# Altium integrated library TI_Logic_Flip-Flop,Latch,Register.IntLib: 2598 symbols (part 43 of 122)
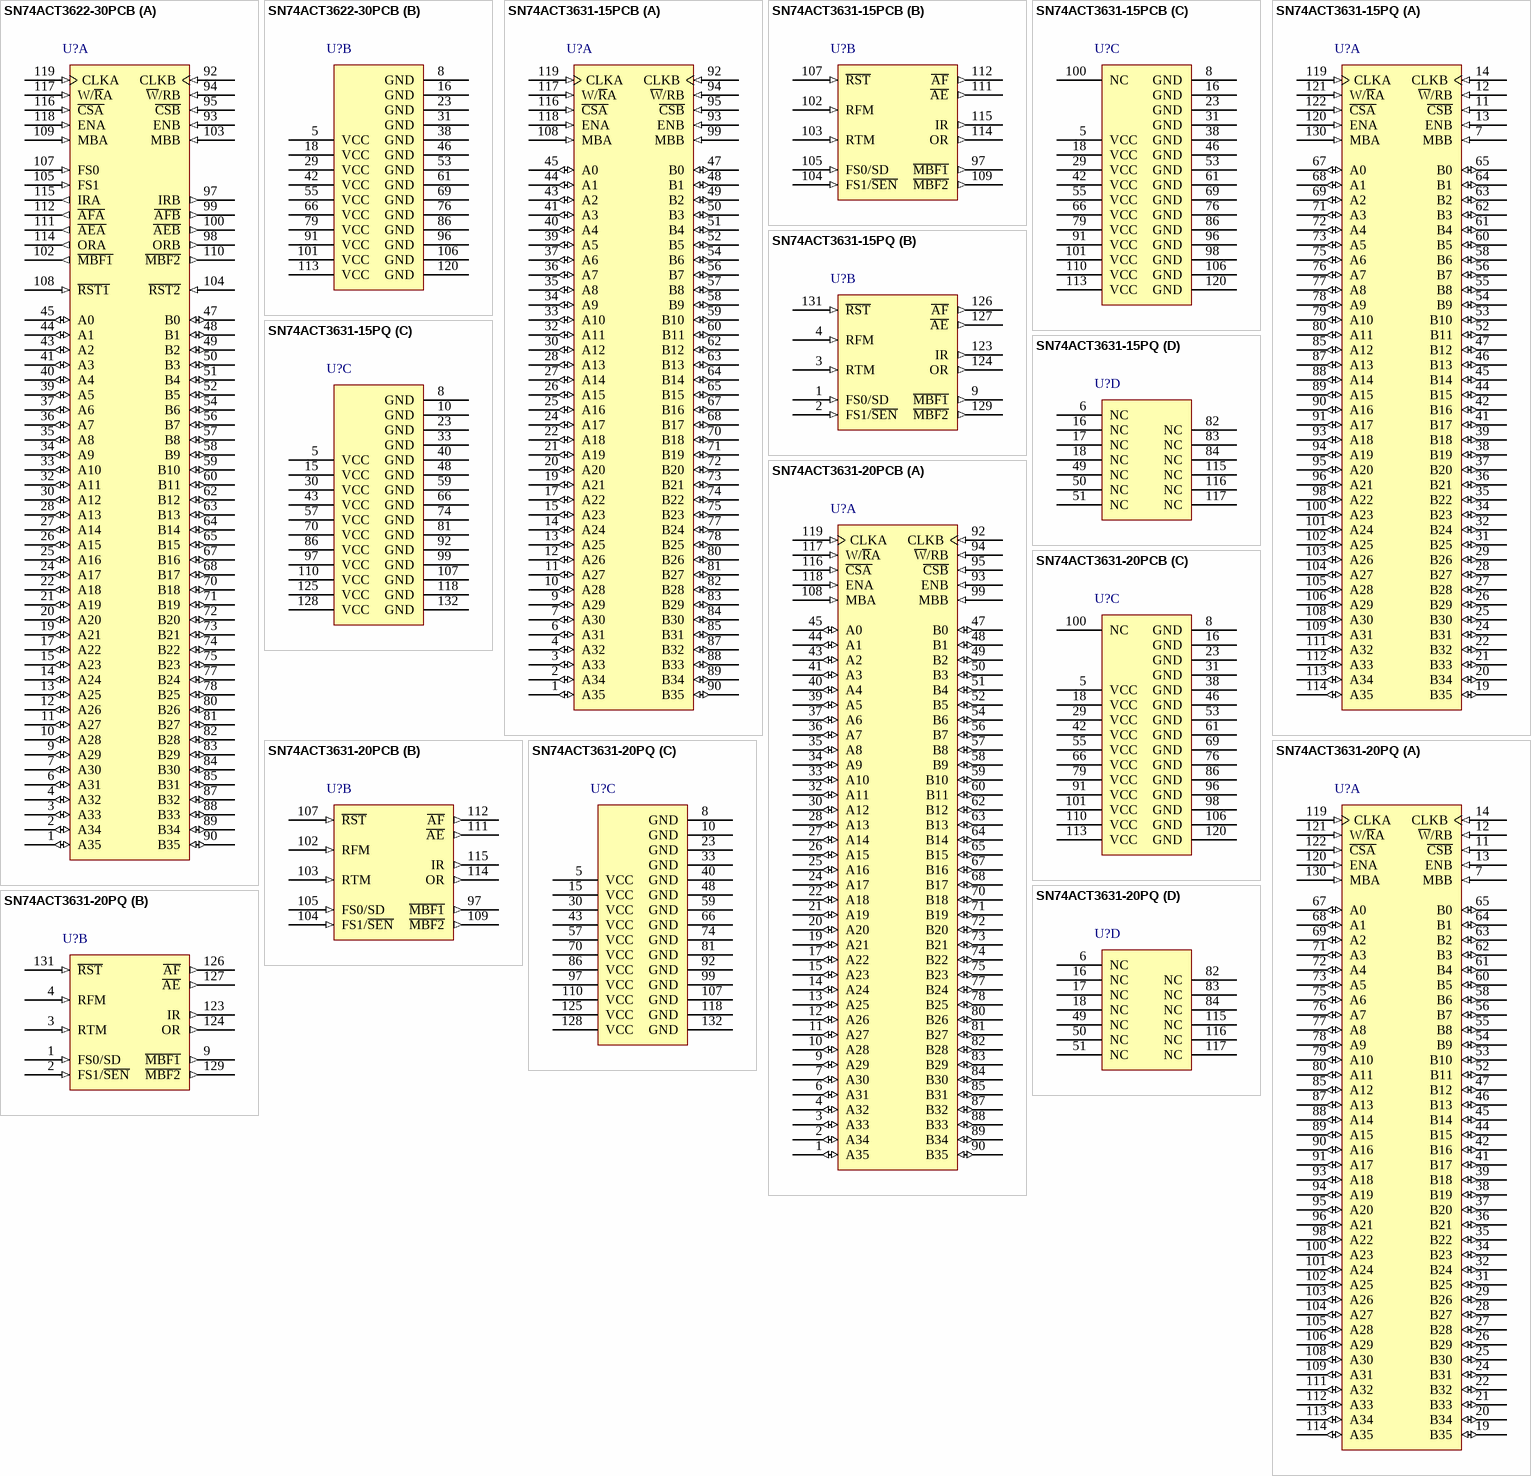
[diagram p181: symbols SN74ACT3622-30PCB to SN74ACT3631-20PQ]

## SN74ACT3622-30PCB
designator U?
256 x 36 x 2 bidirectional synchronous FIFO memory, PCB0120A, JEDEC TRAY (5+1); Generic Part Number: SN74ACT3622; Manufacturer: Texas Instruments; PartNumber: SN74ACT3622-30PCB; Vcc range(V): 4.5 to 5.5; Fmax(MHz): 67; Voltage Nodes(V): 5; Sync/Async: S; Rating: Catalog; Output Drive(mA): -0.5; DatasheetVersion: SCAS247D; PackageReference: PCB0120A; Depth: 255; Width: 36; Operating Temperature Range(C): 0 to 70; Code_JEDEC: MS-026; ComponentLink1Description: Manufacturer URL; ComponentLink1URL: http://www.ti.com/; ComponentLink2Description: Datasheet; ComponentLink2URL: http://www.ti.com/lit/ds/symlink/sn74act3622.pdf; ComponentLink3Description: Package Specification; ComponentLink3URL: http://www.ti.com/lit/ml/mhtq004a/mhtq004a.pdf
footprint PCB0120A_N (QFP, 120-Leads, Body 14x14mm, Pitch 0.4mm, IPC Medium Density)
footprint PCB0120A_M (QFP, 120-Leads, Body 14x14mm, Pitch 0.4mm, IPC Low Density)
footprint PCB0120A_L (QFP, 120-Leads, Body 14x14mm, Pitch 0.4mm, IPC High Density)
part A pins: 1 A35 (io) "Port-A data. The 36-bit bidirectional data port for side A.", 2 A34 (io) "Port-A data. The 36-bit bidirectional data port for side A.", 3 A33 (io) "Port-A data. The 36-bit bidirectional data port for side A.", 4 A32 (io) "Port-A data. The 36-bit bidirectional data port for side A.", 6 A31 (io) "Port-A data. The 36-bit bidirectional data port for side A.", 7 A30 (io) "Port-A data. The 36-bit bidirectional data port for side A.", 9 A29 (io) "Port-A data. The 36-bit bidirectional data port for side A.", 10 A28 (io) "Port-A data. The 36-bit bidirectional data port for side A.", 11 A27 (io) "Port-A data. The 36-bit bidirectional data port for side A.", 12 A26 (io) "Port-A data. The 36-bit bidirectional data port for side A.", 13 A25 (io) "Port-A data. The 36-bit bidirectional data port for side A.", 14 A24 (io) "Port-A data. The 36-bit bidirectional data port for side A.", 15 A23 (io) "Port-A data. The 36-bit bidirectional data port for side A.", 17 A22 (io) "Port-A data. The 36-bit bidirectional data port for side A.", 19 A21 (io) "Port-A data. The 36-bit bidirectional data port for side A.", 20 A20 (io) "Port-A data. The 36-bit bidirectional data port for side A.", 21 A19 (io) "Port-A data. The 36-bit bidirectional data port for side A.", 22 A18 (io) "Port-A data. The 36-bit bidirectional data port for side A.", 24 A17 (io) "Port-A data. The 36-bit bidirectional data port for side A.", 25 A16 (io) "Port-A data. The 36-bit bidirectional data port for side A.", 26 A15 (io) "Port-A data. The 36-bit bidirectional data port for side A.", 27 A14 (io) "Port-A data. The 36-bit bidirectional data port for side A.", 28 A13 (io) "Port-A data. The 36-bit bidirectional data port for side A.", 30 A12 (io) "Port-A data. The 36-bit bidirectional data port for side A.", 32 A11 (io) "Port-A data. The 36-bit bidirectional data port for side A.", 33 A10 (io) "Port-A data. The 36-bit bidirectional data port for side A.", 34 A9 (io) "Port-A data. The 36-bit bidirectional data port for side A.", 35 A8 (io) "Port-A data. The 36-bit bidirectional data port for side A.", 36 A7 (io) "Port-A data. The 36-bit bidirectional data port for side A.", 37 A6 (io) "Port-A data. The 36-bit bidirectional data port for side A.", 39 A5 (io) "Port-A data. The 36-bit bidirectional data port for side A.", 40 A4 (io) "Port-A data. The 36-bit bidirectional data port for side A.", 41 A3 (io) "Port-A data. The 36-bit bidirectional data port for side A.", 43 A2 (io) "Port-A data. The 36-bit bidirectional data port for side A.", 44 A1 (io) "Port-A data. The 36-bit bidirectional data port for side A.", 45 A0 (io) "Port-A data. The 36-bit bidirectional data port for side A.", 47 B0 (io) "Port-B data. The 36-bit bidirectional data port for side B.", 48 B1 (io) "Port-B data. The 36-bit bidirectional data port for side B.", 49 B2 (io) "Port-B data. The 36-bit bidirectional data port for side B.", 50 B3 (io) "Port-B data. The 36-bit bidirectional data port for side B.", 51 B4 (io) "Port-B data. The 36-bit bidirectional data port for side B.", 52 B5 (io) "Port-B data. The 36-bit bidirectional data port for side B.", 54 B6 (io) "Port-B data. The 36-bit bidirectional data port for side B.", 56 B7 (io) "Port-B data. The 36-bit bidirectional data port for side B.", 57 B8 (io) "Port-B data. The 36-bit bidirectional data port for side B.", 58 B9 (io) "Port-B data. The 36-bit bidirectional data port for side B.", 59 B10 (io) "Port-B data. The 36-bit bidirectional data port for side B.", 60 B11 (io) "Port-B data. The 36-bit bidirectional data port for side B.", 62 B12 (io) "Port-B data. The 36-bit bidirectional data port for side B.", 63 B13 (io) "Port-B data. The 36-bit bidirectional data port for side B.", 64 B14 (io) "Port-B data. The 36-bit bidirectional data port for side B.", 65 B15 (io) "Port-B data. The 36-bit bidirectional data port for side B.", 67 B16 (io) "Port-B data. The 36-bit bidirectional data port for side B.", 68 B17 (io) "Port-B data. The 36-bit bidirectional data port for side B.", 70 B18 (io) "Port-B data. The 36-bit bidirectional data port for side B.", 71 B19 (io) "Port-B data. The 36-bit bidirectional data port for side B.", 72 B20 (io) "Port-B data. The 36-bit bidirectional data port for side B.", 73 B21 (io) "Port-B data. The 36-bit bidirectional data port for side B.", 74 B22 (io) "Port-B data. The 36-bit bidirectional data port for side B.", 75 B23 (io) "Port-B data. The 36-bit bidirectional data port for side B.", 77 B24 (io) "Port-B data. The 36-bit bidirectional data port for side B.", 78 B25 (io) "Port-B data. The 36-bit bidirectional data port for side B.", 80 B26 (io) "Port-B data. The 36-bit bidirectional data port for side B.", 81 B27 (io) "Port-B data. The 36-bit bidirectional data port for side B.", 82 B28 (io) "Port-B data. The 36-bit bidirectional data port for side B.", 83 B29 (io) "Port-B data. The 36-bit bidirectional data port for side B.", 84 B30 (io) "Port-B data. The 36-bit bidirectional data port for side B.", 85 B31 (io) "Port-B data. The 36-bit bidirectional data port for side B.", 87 B32 (io) "Port-B data. The 36-bit bidirectional data port for side B.", 88 B33 (io) "Port-B data. The 36-bit bidirectional data port for side B.", 89 B34 (io) "Port-B data. The 36-bit bidirectional data port for side B.", 90 B35 (io) "Port-B data. The 36-bit bidirectional data port for side B.", 92 CLKB (in) "Port-B clock. CLKB is a continuous clock that synchronizes all data transfers through port B and can be asynchronous or coincident to CLKA. IRB, ORB, A\F\B\, and A\E\B\ are synchronized to the low-to-high transition of CLKB.", 93 ENB (in) "Port-B enable. ENB must be high to enable a low-to-high transition of CLKB to read or write data on port B.", 94 ~{W}/RB (in) "Port-B write/read select. A low on W\/RB selects a write operation and a high selects a read operation on port B for a low-to-high transition of CLKB. The B0-B35 outputs are in the high-impedance state when W\/RB is low.", 95 ~{CSB} (in) "Port-B chip select. C\S\B\ must be low to enable a low-to-high transition of CLKB to read or write data on port B. The B0-B35 outputs are in the high-impedance state when C\S\B\ is high.", 97 IRB (out) "Input-ready flag. IRB is synchronized to the low-to-high transition of CLKB. When IRB is low, FIFO2 is full and writes to its array are disabled. IRB is set low when FIFO2 is reset and is set high on the second low-to-high (See Datasheet)", 98 ORB (out) "Output-ready flag. ORB is synchronized to the low-to-high transition of CLKB. When ORB is low, FIFO1 is empty and reads from its memory are disabled. Ready data is present on the output register of FIFO1 when ORB is high. (See Datasheet)", 99 ~{AFB} (out) "Port-B almost-full flag. Programmable flag synchronized to CLKB. A\F\B\ is low when the number of empty locations in FIFO2 is less than or equal to the value in the almost-full B offset register, Y2.", 100 ~{AEB} (out) "Port-B almost-empty flag. Programmable flag synchronized to CLKB. A\E\B\ is low when the number of words in FIFO1 is less than or equal to the value in the almost-empty B offset register, X1.", 102 ~{MBF1} (out) "Mail1 register flag. M\B\F\1\ is set low by the low-to-high transition of CLKA that writes data to the mail1 register. Writes to the mail1 register are inhibited while M\B\F\1\ is low. M\B\F\1\ is set high by a low-to-high (See Datasheet)", 103 MBB (in) "Port-B mailbox select. A high level on MBB chooses a mailbox register for a port-B read or write operation. When the B0-B35 outputs are active, a high level on MBB selects data from the mail1 register for output and a low (See Datasheet)", 104 ~{RST2} (in) "FIFO2 reset. To reset FIFO2, four low-to-high transitions of CLKA and four low-to-high transitions of CLKB must occur while R\S\T\2\ is low. The low-to-high transition of R\S\T\2\ latches the status of FS0 and FS1 for A\F\B\ (See Datasheet)", 105 FS1 (in) "Flag-offset selects. The low-to-high transition of a FIFO reset input latches the values of FS0 and FS1. If either FS0 or FS1 is high when a reset input goes high, one of three preset values is selected as the offset for the (See Datasheet)", 107 FS0 (in) "Flag-offset selects. The low-to-high transition of a FIFO reset input latches the values of FS0 and FS1. If either FS0 or FS1 is high when a reset input goes high, one of three preset values is selected as the offset for the (See Datasheet)", 108 ~{RST1} (in) "FIFO1 reset. To reset FIFO1, four low-to-high transitions of CLKA and four low-to-high transitions of CLKB must occur while R\S\T\1\ is low. The low-to-high transition of R\S\T\1\ latches the status of FS0 and FS1 for A\F\A\ (See Datasheet)", 109 MBA (in) "Port-A mailbox select. A high level on MBA chooses a mailbox register for a port-A read or write operation. When the A0-A35 outputs are active, a high level on MBA selects data from the mail2 register for output and a low (See Datasheet)", 110 ~{MBF2} (out) "Mail2 register flag. M\B\F\2\ is set low by the low-to-high transition of CLKB that writes data to the mail2 register. Writes to the mail2 register are inhibited while M\B\F\2\ is low. M\B\F\2\ is set high by a low-to-high (See Datasheet)", 111 ~{AEA} (out) "Port-A almost-empty flag. Programmable flag synchronized to CLKA. A\E\A\ is low when the number of words in FIFO2 is less than or equal to the value in the almost-empty A offset register, X2.", 112 ~{AFA} (out) "Port-A almost-full flag. Programmable flag synchronized to CLKA. A\F\A\ is low when the number of empty locations in FIFO1 is less than or equal to the value in the almost-full A offset register, Y1.", 114 ORA (out) "Output-ready flag. ORA is synchronized to the low-to-high transition of CLKA. When ORA is low, FIFO2 is empty and reads from its memory are disabled. Ready data is present on the output register of FIFO2 when ORA is high. (See Datasheet)", 115 IRA (out) "Input-ready flag. IRA is synchronized to the low-to-high transition of CLKA. When IRA is low, FIFO1 is full and writes to its array are disabled. IRA is set low when FIFO1 is reset and is set high on the second low-to-high (See Datasheet)", 116 ~{CSA} (in) "Port-A chip select. C\S\A\ must be low to enable a low-to-high transition of CLKA to read or write data on port A. The A0-A35 outputs are in the high-impedance state when C\S\A\ is high.", 117 W/~{R}A (in) "Port-A write/read select. A high on W/R\A selects a write operation and a low selects a read operation on port A for a low-to-high transition of CLKA. The A0-A35 outputs are in the high-impedance state when W/R\A is high.", 118 ENA (in) "Port-A enable. ENA must be high to enable a low-to-high transition of CLKA to read or write data on port A.", 119 CLKA (in) "Port-A clock. CLKA is a continuous clock that synchronizes all data transfers through port A and can be asynchronous or coincident to CLKB. IRA, ORA, A\F\A\, and A\E\A\ are all synchronized to the low-to-high transition of (See Datasheet)"
part B pins: 5 VCC (power), 8 GND (power), 16 GND (power), 18 VCC (power), 23 GND (power), 29 VCC (power), 31 GND (power), 38 GND (power), 42 VCC (power), 46 GND (power), 53 GND (power), 55 VCC (power), 61 GND (power), 66 VCC (power), 69 GND (power), 76 GND (power), 79 VCC (power), 86 GND (power), 91 VCC (power), 96 GND (power), 101 VCC (power), 106 GND (power), 113 VCC (power), 120 GND (power)

## SN74ACT3631-15PCB
designator U?
512 x 36 synchronous FIFO memory, PCB0120A, JEDEC TRAY (5+1); Generic Part Number: SN74ACT3631; Manufacturer: Texas Instruments; PartNumber: SN74ACT3631-15PCB; Vcc range(V): 4.5 to 5.5; Fmax(MHz): 67; Voltage Nodes(V): 5; Sync/Async: S; Rating: Catalog; Output Drive(mA): -0.5; DatasheetVersion: SCAS246G; PackageReference: PCB0120A; Depth: 512; Width: 36; Code_JEDEC: MS-026; ComponentLink1Description: Manufacturer URL; ComponentLink1URL: http://www.ti.com/; ComponentLink2Description: Datasheet; ComponentLink2URL: http://www.ti.com/lit/ds/symlink/sn74act3631.pdf; ComponentLink3Description: Package Specification; ComponentLink3URL: http://www.ti.com/lit/ml/mhtq004a/mhtq004a.pdf
footprint PCB0120A_N (QFP, 120-Leads, Body 14x14mm, Pitch 0.4mm, IPC Medium Density)
footprint PCB0120A_M (QFP, 120-Leads, Body 14x14mm, Pitch 0.4mm, IPC Low Density)
footprint PCB0120A_L (QFP, 120-Leads, Body 14x14mm, Pitch 0.4mm, IPC High Density)
part A pins: 1 A35 (io) "Port-A data. The 36-bit bidirectional data port for side A.", 2 A34 (io) "Port-A data. The 36-bit bidirectional data port for side A.", 3 A33 (io) "Port-A data. The 36-bit bidirectional data port for side A.", 4 A32 (io) "Port-A data. The 36-bit bidirectional data port for side A.", 6 A31 (io) "Port-A data. The 36-bit bidirectional data port for side A.", 7 A30 (io) "Port-A data. The 36-bit bidirectional data port for side A.", 9 A29 (io) "Port-A data. The 36-bit bidirectional data port for side A.", 10 A28 (io) "Port-A data. The 36-bit bidirectional data port for side A.", 11 A27 (io) "Port-A data. The 36-bit bidirectional data port for side A.", 12 A26 (io) "Port-A data. The 36-bit bidirectional data port for side A.", 13 A25 (io) "Port-A data. The 36-bit bidirectional data port for side A.", 14 A24 (io) "Port-A data. The 36-bit bidirectional data port for side A.", 15 A23 (io) "Port-A data. The 36-bit bidirectional data port for side A.", 17 A22 (io) "Port-A data. The 36-bit bidirectional data port for side A.", 19 A21 (io) "Port-A data. The 36-bit bidirectional data port for side A.", 20 A20 (io) "Port-A data. The 36-bit bidirectional data port for side A.", 21 A19 (io) "Port-A data. The 36-bit bidirectional data port for side A.", 22 A18 (io) "Port-A data. The 36-bit bidirectional data port for side A.", 24 A17 (io) "Port-A data. The 36-bit bidirectional data port for side A.", 25 A16 (io) "Port-A data. The 36-bit bidirectional data port for side A.", 26 A15 (io) "Port-A data. The 36-bit bidirectional data port for side A.", 27 A14 (io) "Port-A data. The 36-bit bidirectional data port for side A.", 28 A13 (io) "Port-A data. The 36-bit bidirectional data port for side A.", 30 A12 (io) "Port-A data. The 36-bit bidirectional data port for side A.", 32 A11 (io) "Port-A data. The 36-bit bidirectional data port for side A.", 33 A10 (io) "Port-A data. The 36-bit bidirectional data port for side A.", 34 A9 (io) "Port-A data. The 36-bit bidirectional data port for side A.", 35 A8 (io) "Port-A data. The 36-bit bidirectional data port for side A.", 36 A7 (io) "Port-A data. The 36-bit bidirectional data port for side A.", 37 A6 (io) "Port-A data. The 36-bit bidirectional data port for side A.", 39 A5 (io) "Port-A data. The 36-bit bidirectional data port for side A.", 40 A4 (io) "Port-A data. The 36-bit bidirectional data port for side A.", 41 A3 (io) "Port-A data. The 36-bit bidirectional data port for side A.", 43 A2 (io) "Port-A data. The 36-bit bidirectional data port for side A.", 44 A1 (io) "Port-A data. The 36-bit bidirectional data port for side A.", 45 A0 (io) "Port-A data. The 36-bit bidirectional data port for side A.", 47 B0 (io) "Port-B data. The 36-bit bidirectional data port for side B.", 48 B1 (io) "Port-B data. The 36-bit bidirectional data port for side B.", 49 B2 (io) "Port-B data. The 36-bit bidirectional data port for side B.", 50 B3 (io) "Port-B data. The 36-bit bidirectional data port for side B.", 51 B4 (io) "Port-B data. The 36-bit bidirectional data port for side B.", 52 B5 (io) "Port-B data. The 36-bit bidirectional data port for side B.", 54 B6 (io) "Port-B data. The 36-bit bidirectional data port for side B.", 56 B7 (io) "Port-B data. The 36-bit bidirectional data port for side B.", 57 B8 (io) "Port-B data. The 36-bit bidirectional data port for side B.", 58 B9 (io) "Port-B data. The 36-bit bidirectional data port for side B.", 59 B10 (io) "Port-B data. The 36-bit bidirectional data port for side B.", 60 B11 (io) "Port-B data. The 36-bit bidirectional data port for side B.", 62 B12 (io) "Port-B data. The 36-bit bidirectional data port for side B.", 63 B13 (io) "Port-B data. The 36-bit bidirectional data port for side B.", 64 B14 (io) "Port-B data. The 36-bit bidirectional data port for side B.", 65 B15 (io) "Port-B data. The 36-bit bidirectional data port for side B.", 67 B16 (io) "Port-B data. The 36-bit bidirectional data port for side B.", 68 B17 (io) "Port-B data. The 36-bit bidirectional data port for side B.", 70 B18 (io) "Port-B data. The 36-bit bidirectional data port for side B.", 71 B19 (io) "Port-B data. The 36-bit bidirectional data port for side B.", 72 B20 (io) "Port-B data. The 36-bit bidirectional data port for side B.", 73 B21 (io) "Port-B data. The 36-bit bidirectional data port for side B.", 74 B22 (io) "Port-B data. The 36-bit bidirectional data port for side B.", 75 B23 (io) "Port-B data. The 36-bit bidirectional data port for side B.", 77 B24 (io) "Port-B data. The 36-bit bidirectional data port for side B.", 78 B25 (io) "Port-B data. The 36-bit bidirectional data port for side B.", 80 B26 (io) "Port-B data. The 36-bit bidirectional data port for side B.", 81 B27 (io) "Port-B data. The 36-bit bidirectional data port for side B.", 82 B28 (io) "Port-B data. The 36-bit bidirectional data port for side B.", 83 B29 (io) "Port-B data. The 36-bit bidirectional data port for side B.", 84 B30 (io) "Port-B data. The 36-bit bidirectional data port for side B.", 85 B31 (io) "Port-B data. The 36-bit bidirectional data port for side B.", 87 B32 (io) "Port-B data. The 36-bit bidirectional data port for side B.", 88 B33 (io) "Port-B data. The 36-bit bidirectional data port for side B.", 89 B34 (io) "Port-B data. The 36-bit bidirectional data port for side B.", 90 B35 (io) "Port-B data. The 36-bit bidirectional data port for side B.", 92 CLKB (in) "Port-B clock. CLKB is a continuous clock that synchronizes all data transfers through port B and can be asynchronous or coincident to CLKA. OR and A\E\ are synchronous to the low-to-high transition of CLKB.", 93 ENB (in) "Port-B master enable. ENB must be high to enable a low-to-high transition of CLKB to read or write data on port B.", 94 ~{W}/RB (in) "Port-B write/read select. A low on W\/RB selects a write operation and a high selects a read operation on port B for a low-to-high transition of CLKB. The B0-B35 outputs are in the high-impedance state when W\/RB is low.", 95 ~{CSB} (in) "Port-B chip select. C\S\B\ must be low to enable a low-to-high transition of CLKB to read or write data on port B. The B0-B35 outputs are in the high-impedance state when C\S\B\ is high.", 99 MBB (in) "Port-B mailbox select. A high level on MBB chooses a mailbox register for a port-B read or write operation. When the B0-B35 outputs are active, a high level on MBB selects data from the mail1 register for output and a low (See Datasheet)", 108 MBA (in) "Port-A mailbox select. A high level on MBA chooses a mailbox register for a port-A read or write operation.", 116 ~{CSA} (in) "Port-A chip select. C\S\A\ must be low to enable a low-to-high transition of CLKA to read or write data on port A. The A0-A35 outputs are in the high-impedance state when C\S\A\ is high.", 117 W/~{R}A (in) "Port-A write/read select. A high on W/R\A selects a write operation and a low selects a read operation on port A for a low-to-high transition of CLKA. The A0-A35 outputs are in the high-impedance state when W/R\A is high.", 118 ENA (in) "Port-A master enable. ENA must be high to enable a low-to-high transition of CLKA to read or write data on port A.", 119 CLKA (in) "Port-A clock. CLKA is a continuous clock that synchronizes all data transfers through port A and can be asynchronous or coincident to CLKB. IR and A\F\ are synchronous to the low-to-high transition of CLKA."
part B pins: 97 ~{MBF1} (out) "Mail1 register flag. M\B\F\1\ is set low by the low-to-high transition of CLKA that writes data to the mail1 register. M\B\F\1\ is set high by a low-to-high transition of CLKB when a port-B read is selected and MBB is high. (See Datasheet)", 102 RFM (in) "Read from mark. When the FIFO is in retransmit mode, a high on RFM enables a low-to-high transition of CLKB to reset the read pointer to the beginning retransmit location and output the first selected retransmit data.", 103 RTM (in) "Retransmit mode. When RTM is high and valid data is present in the FIFO output register (OR is high), a low-to-high transition of CLKB selects the data for the beginning of a retransmit and puts the FIFO in retransmit mode. (See Datasheet)", 104 FS1/~{SEN} (in) "Flag-offset select 1/serial enable, flag-offset select 0/serial data. FS1/S\E\N\ and FS0/SD are dual-purpose inputs used for flag-offset-register programming. During a device reset, FS1/S\E\N\ and FS0/SD select the (See Datasheet)", 105 FS0/SD (in) "Flag-offset select 1/serial enable, flag-offset select 0/serial data. FS1/S\E\N\ and FS0/SD are dual-purpose inputs used for flag-offset-register programming. During a device reset, FS1/S\E\N\ and FS0/SD select the (See Datasheet)", 107 ~{RST} (in) "Reset. To reset the device, four low-to-high transitions of CLKA and four low-to-high transitions of CLKB must occur while R\S\T\ is low. The low-to-high transition of R\S\T\ latches the status of FS0 and FS1 for A\F\ and (See Datasheet)", 109 ~{MBF2} (out) "Mail2 register flag. M\B\F\2\ is set low by the low-to-high transition of CLKB that writes data to the mail2 register. M\B\F\2\ is set high by a low-to-high transition of CLKA when a port-A read is selected and MBA is high. (See Datasheet)", 111 ~{AE} (out) "Almost-empty flag. Programmable flag synchronized to CLKB. A\E\ is low when the number of words in the FIFO is less than or equal to the value in the almost-empty offset register (X).", 112 ~{AF} (out) "Almost-full flag. Programmable flag synchronized to CLKA. A\F\ is low when the number of empty locations in the FIFO is less than or equal to the value in the almost-full offset register (Y).", 114 OR (out) "Output-ready flag. OR is synchronized to the low-to-high transition of CLKB. When OR is low, the FIFO is empty and reads are disabled. Ready data is present in the output register of the FIFO when OR is high. OR is forced (See Datasheet)", 115 IR (out) "Input-ready flag. IR is synchronized to the low-to-high transition of CLKA. When IR is low, the FIFO is full and writes to its array are disabled. When the FIFO is in retransmit mode, IR indicates when the memory has been (See Datasheet)"
part C pins: 5 VCC (power), 8 GND (power), 16 GND (power), 18 VCC (power), 23 GND (power), 29 VCC (power), 31 GND (power), 38 GND (power), 42 VCC (power), 46 GND (power), 53 GND (power), 55 VCC (power), 61 GND (power), 66 VCC (power), 69 GND (power), 76 GND (power), 79 VCC (power), 86 GND (power), 91 VCC (power), 96 GND (power), 98 GND (power), 100 NC, 101 VCC (power), 106 GND (power), 110 VCC (power), 113 VCC (power), 120 GND (power)

## SN74ACT3631-15PQ
designator U?
512 x 36 synchronous FIFO memory, PQ0132A, JEDEC TRAY (10+1); Generic Part Number: SN74ACT3631; Manufacturer: Texas Instruments; PartNumber: SN74ACT3631-15PQ; Vcc range(V): 4.5 to 5.5; Fmax(MHz): 67; Voltage Nodes(V): 5; Sync/Async: S; Rating: Catalog; Output Drive(mA): -0.5; DatasheetVersion: SCAS246G; PackageReference: PQ0132A; Depth: 512; Width: 36; Code_JEDEC: MO-069; ComponentLink1Description: Manufacturer URL; ComponentLink1URL: http://www.ti.com/; ComponentLink2Description: Datasheet; ComponentLink2URL: http://www.ti.com/lit/ds/symlink/sn74act3631.pdf; ComponentLink3Description: Package Specification; ComponentLink3URL: http://www.ti.com/lit/ml/mbqf001a/mbqf001a.pdf
footprint PQ0132A_N (QFP, 132-Leads, Body 24.1x24.1mm, Pitch 0.635mm, IPC Medium Density)
footprint PQ0132A_M (QFP, 132-Leads, Body 24.1x24.1mm, Pitch 0.635mm, IPC Low Density)
footprint PQ0132A_L (QFP, 132-Leads, Body 24.1x24.1mm, Pitch 0.635mm, IPC High Density)
part A pins: 7 MBB (in) "Port-B mailbox select. A high level on MBB chooses a mailbox register for a port-B read or write operation. When the B0-B35 outputs are active, a high level on MBB selects data from the mail1 register for output and a low (See Datasheet)", 11 ~{CSB} (in) "Port-B chip select. C\S\B\ must be low to enable a low-to-high transition of CLKB to read or write data on port B. The B0-B35 outputs are in the high-impedance state when C\S\B\ is high.", 12 ~{W}/RB (in) "Port-B write/read select. A low on W\/RB selects a write operation and a high selects a read operation on port B for a low-to-high transition of CLKB. The B0-B35 outputs are in the high-impedance state when W\/RB is low.", 13 ENB (in) "Port-B master enable. ENB must be high to enable a low-to-high transition of CLKB to read or write data on port B.", 14 CLKB (in) "Port-B clock. CLKB is a continuous clock that synchronizes all data transfers through port B and can be asynchronous or coincident to CLKA. OR and A\E\ are synchronous to the low-to-high transition of CLKB.", 19 B35 (io) "Port-B data. The 36-bit bidirectional data port for side B.", 20 B34 (io) "Port-B data. The 36-bit bidirectional data port for side B.", 21 B33 (io) "Port-B data. The 36-bit bidirectional data port for side B.", 22 B32 (io) "Port-B data. The 36-bit bidirectional data port for side B.", 24 B31 (io) "Port-B data. The 36-bit bidirectional data port for side B.", 25 B30 (io) "Port-B data. The 36-bit bidirectional data port for side B.", 26 B29 (io) "Port-B data. The 36-bit bidirectional data port for side B.", 27 B28 (io) "Port-B data. The 36-bit bidirectional data port for side B.", 28 B27 (io) "Port-B data. The 36-bit bidirectional data port for side B.", 29 B26 (io) "Port-B data. The 36-bit bidirectional data port for side B.", 31 B25 (io) "Port-B data. The 36-bit bidirectional data port for side B.", 32 B24 (io) "Port-B data. The 36-bit bidirectional data port for side B.", 34 B23 (io) "Port-B data. The 36-bit bidirectional data port for side B.", 35 B22 (io) "Port-B data. The 36-bit bidirectional data port for side B.", 36 B21 (io) "Port-B data. The 36-bit bidirectional data port for side B.", 37 B20 (io) "Port-B data. The 36-bit bidirectional data port for side B.", 38 B19 (io) "Port-B data. The 36-bit bidirectional data port for side B.", 39 B18 (io) "Port-B data. The 36-bit bidirectional data port for side B.", 41 B17 (io) "Port-B data. The 36-bit bidirectional data port for side B.", 42 B16 (io) "Port-B data. The 36-bit bidirectional data port for side B.", 44 B15 (io) "Port-B data. The 36-bit bidirectional data port for side B.", 45 B14 (io) "Port-B data. The 36-bit bidirectional data port for side B.", 46 B13 (io) "Port-B data. The 36-bit bidirectional data port for side B.", 47 B12 (io) "Port-B data. The 36-bit bidirectional data port for side B.", 52 B11 (io) "Port-B data. The 36-bit bidirectional data port for side B.", 53 B10 (io) "Port-B data. The 36-bit bidirectional data port for side B.", 54 B9 (io) "Port-B data. The 36-bit bidirectional data port for side B.", 55 B8 (io) "Port-B data. The 36-bit bidirectional data port for side B.", 56 B7 (io) "Port-B data. The 36-bit bidirectional data port for side B.", 58 B6 (io) "Port-B data. The 36-bit bidirectional data port for side B.", 60 B5 (io) "Port-B data. The 36-bit bidirectional data port for side B.", 61 B4 (io) "Port-B data. The 36-bit bidirectional data port for side B.", 62 B3 (io) "Port-B data. The 36-bit bidirectional data port for side B.", 63 B2 (io) "Port-B data. The 36-bit bidirectional data port for side B.", 64 B1 (io) "Port-B data. The 36-bit bidirectional data port for side B.", 65 B0 (io) "Port-B data. The 36-bit bidirectional data port for side B.", 67 A0 (io) "Port-A data. The 36-bit bidirectional data port for side A.", 68 A1 (io) "Port-A data. The 36-bit bidirectional data port for side A.", 69 A2 (io) "Port-A data. The 36-bit bidirectional data port for side A.", 71 A3 (io) "Port-A data. The 36-bit bidirectional data port for side A.", 72 A4 (io) "Port-A data. The 36-bit bidirectional data port for side A.", 73 A5 (io) "Port-A data. The 36-bit bidirectional data port for side A.", 75 A6 (io) "Port-A data. The 36-bit bidirectional data port for side A.", 76 A7 (io) "Port-A data. The 36-bit bidirectional data port for side A.", 77 A8 (io) "Port-A data. The 36-bit bidirectional data port for side A.", 78 A9 (io) "Port-A data. The 36-bit bidirectional data port for side A.", 79 A10 (io) "Port-A data. The 36-bit bidirectional data port for side A.", 80 A11 (io) "Port-A data. The 36-bit bidirectional data port for side A.", 85 A12 (io) "Port-A data. The 36-bit bidirectional data port for side A.", 87 A13 (io) "Port-A data. The 36-bit bidirectional data port for side A.", 88 A14 (io) "Port-A data. The 36-bit bidirectional data port for side A.", 89 A15 (io) "Port-A data. The 36-bit bidirectional data port for side A.", 90 A16 (io) "Port-A data. The 36-bit bidirectional data port for side A.", 91 A17 (io) "Port-A data. The 36-bit bidirectional data port for side A.", 93 A18 (io) "Port-A data. The 36-bit bidirectional data port for side A.", 94 A19 (io) "Port-A data. The 36-bit bidirectional data port for side A.", 95 A20 (io) "Port-A data. The 36-bit bidirectional data port for side A.", 96 A21 (io) "Port-A data. The 36-bit bidirectional data port for side A.", 98 A22 (io) "Port-A data. The 36-bit bidirectional data port for side A.", 100 A23 (io) "Port-A data. The 36-bit bidirectional data port for side A.", 101 A24 (io) "Port-A data. The 36-bit bidirectional data port for side A.", 102 A25 (io) "Port-A data. The 36-bit bidirectional data port for side A.", 103 A26 (io) "Port-A data. The 36-bit bidirectional data port for side A.", 104 A27 (io) "Port-A data. The 36-bit bidirectional data port for side A.", 105 A28 (io) "Port-A data. The 36-bit bidirectional data port for side A.", 106 A29 (io) "Port-A data. The 36-bit bidirectional data port for side A.", 108 A30 (io) "Port-A data. The 36-bit bidirectional data port for side A.", 109 A31 (io) "Port-A data. The 36-bit bidirectional data port for side A.", 111 A32 (io) "Port-A data. The 36-bit bidirectional data port for side A.", 112 A33 (io) "Port-A data. The 36-bit bidirectional data port for side A.", 113 A34 (io) "Port-A data. The 36-bit bidirectional data port for side A.", 114 A35 (io) "Port-A data. The 36-bit bidirectional data port for side A.", 119 CLKA (in) "Port-A clock. CLKA is a continuous clock that synchronizes all data transfers through port A and can be asynchronous or coincident to CLKB. IR and A\F\ are synchronous to the low-to-high transition of CLKA.", 120 ENA (in) "Port-A master enable. ENA must be high to enable a low-to-high transition of CLKA to read or write data on port A.", 121 W/~{R}A (in) "Port-A write/read select. A high on W/R\A selects a write operation and a low selects a read operation on port A for a low-to-high transition of CLKA. The A0-A35 outputs are in the high-impedance state when W/R\A is high.", 122 ~{CSA} (in) "Port-A chip select. C\S\A\ must be low to enable a low-to-high transition of CLKA to read or write data on port A. The A0-A35 outputs are in the high-impedance state when C\S\A\ is high.", 130 MBA (in) "Port-A mailbox select. A high level on MBA chooses a mailbox register for a port-A read or write operation."
part B pins: 1 FS0/SD (in) "Flag-offset select 1/serial enable, flag-offset select 0/serial data. FS1/S\E\N\ and FS0/SD are dual-purpose inputs used for flag-offset-register programming. During a device reset, FS1/S\E\N\ and FS0/SD select the (See Datasheet)", 2 FS1/~{SEN} (in) "Flag-offset select 1/serial enable, flag-offset select 0/serial data. FS1/S\E\N\ and FS0/SD are dual-purpose inputs used for flag-offset-register programming. During a device reset, FS1/S\E\N\ and FS0/SD select the (See Datasheet)", 3 RTM (in) "Retransmit mode. When RTM is high and valid data is present in the FIFO output register (OR is high), a low-to-high transition of CLKB selects the data for the beginning of a retransmit and puts the FIFO in retransmit mode. (See Datasheet)", 4 RFM (in) "Read from mark. When the FIFO is in retransmit mode, a high on RFM enables a low-to-high transition of CLKB to reset the read pointer to the beginning retransmit location and output the first selected retransmit data.", 9 ~{MBF1} (out) "Mail1 register flag. M\B\F\1\ is set low by the low-to-high transition of CLKA that writes data to the mail1 register. M\B\F\1\ is set high by a low-to-high transition of CLKB when a port-B read is selected and MBB is high. (See Datasheet)", 123 IR (out) "Input-ready flag. IR is synchronized to the low-to-high transition of CLKA. When IR is low, the FIFO is full and writes to its array are disabled. When the FIFO is in retransmit mode, IR indicates when the memory has been (See Datasheet)", 124 OR (out) "Output-ready flag. OR is synchronized to the low-to-high transition of CLKB. When OR is low, the FIFO is empty and reads are disabled. Ready data is present in the output register of the FIFO when OR is high. OR is forced (See Datasheet)", 126 ~{AF} (out) "Almost-full flag. Programmable flag synchronized to CLKA. A\F\ is low when the number of empty locations in the FIFO is less than or equal to the value in the almost-full offset register (Y).", 127 ~{AE} (out) "Almost-empty flag. Programmable flag synchronized to CLKB. A\E\ is low when the number of words in the FIFO is less than or equal to the value in the almost-empty offset register (X).", 129 ~{MBF2} (out) "Mail2 register flag. M\B\F\2\ is set low by the low-to-high transition of CLKB that writes data to the mail2 register. M\B\F\2\ is set high by a low-to-high transition of CLKA when a port-A read is selected and MBA is high. (See Datasheet)", 131 ~{RST} (in) "Reset. To reset the device, four low-to-high transitions of CLKA and four low-to-high transitions of CLKB must occur while R\S\T\ is low. The low-to-high transition of R\S\T\ latches the status of FS0 and FS1 for A\F\ and (See Datasheet)"
part C pins: 5 VCC (power), 8 GND (power), 10 GND (power), 15 VCC (power), 23 GND (power), 30 VCC (power), 33 GND (power), 40 GND (power), 43 VCC (power), 48 GND (power), 57 VCC (power), 59 GND (power), 66 GND (power), 70 VCC (power), 74 GND (power), 81 GND (power), 86 VCC (power), 92 GND (power), 97 VCC (power), 99 GND (power), 107 GND (power), 110 VCC (power), 118 GND (power), 125 VCC (power), 128 VCC (power), 132 GND (power)
part D pins: 6 NC, 16 NC, 17 NC, 18 NC, 49 NC, 50 NC, 51 NC, 82 NC, 83 NC, 84 NC, 115 NC, 116 NC, 117 NC

## SN74ACT3631-20PCB
designator U?
512 x 36 synchronous FIFO memory, PCB0120A, JEDEC TRAY (5+1); Generic Part Number: SN74ACT3631; Manufacturer: Texas Instruments; PartNumber: SN74ACT3631-20PCB; Vcc range(V): 4.5 to 5.5; Fmax(MHz): 67; Voltage Nodes(V): 5; Sync/Async: S; Rating: Catalog; Output Drive(mA): -0.5; DatasheetVersion: SCAS246G; PackageReference: PCB0120A; Depth: 512; Width: 36; Code_JEDEC: MS-026; ComponentLink1Description: Manufacturer URL; ComponentLink1URL: http://www.ti.com/; ComponentLink2Description: Datasheet; ComponentLink2URL: http://www.ti.com/lit/ds/symlink/sn74act3631.pdf; ComponentLink3Description: Package Specification; ComponentLink3URL: http://www.ti.com/lit/ml/mhtq004a/mhtq004a.pdf
footprint PCB0120A_N (QFP, 120-Leads, Body 14x14mm, Pitch 0.4mm, IPC Medium Density)
footprint PCB0120A_M (QFP, 120-Leads, Body 14x14mm, Pitch 0.4mm, IPC Low Density)
footprint PCB0120A_L (QFP, 120-Leads, Body 14x14mm, Pitch 0.4mm, IPC High Density)
part A pins: 1 A35 (io) "Port-A data. The 36-bit bidirectional data port for side A.", 2 A34 (io) "Port-A data. The 36-bit bidirectional data port for side A.", 3 A33 (io) "Port-A data. The 36-bit bidirectional data port for side A.", 4 A32 (io) "Port-A data. The 36-bit bidirectional data port for side A.", 6 A31 (io) "Port-A data. The 36-bit bidirectional data port for side A.", 7 A30 (io) "Port-A data. The 36-bit bidirectional data port for side A.", 9 A29 (io) "Port-A data. The 36-bit bidirectional data port for side A.", 10 A28 (io) "Port-A data. The 36-bit bidirectional data port for side A.", 11 A27 (io) "Port-A data. The 36-bit bidirectional data port for side A.", 12 A26 (io) "Port-A data. The 36-bit bidirectional data port for side A.", 13 A25 (io) "Port-A data. The 36-bit bidirectional data port for side A.", 14 A24 (io) "Port-A data. The 36-bit bidirectional data port for side A.", 15 A23 (io) "Port-A data. The 36-bit bidirectional data port for side A.", 17 A22 (io) "Port-A data. The 36-bit bidirectional data port for side A.", 19 A21 (io) "Port-A data. The 36-bit bidirectional data port for side A.", 20 A20 (io) "Port-A data. The 36-bit bidirectional data port for side A.", 21 A19 (io) "Port-A data. The 36-bit bidirectional data port for side A.", 22 A18 (io) "Port-A data. The 36-bit bidirectional data port for side A.", 24 A17 (io) "Port-A data. The 36-bit bidirectional data port for side A.", 25 A16 (io) "Port-A data. The 36-bit bidirectional data port for side A.", 26 A15 (io) "Port-A data. The 36-bit bidirectional data port for side A.", 27 A14 (io) "Port-A data. The 36-bit bidirectional data port for side A.", 28 A13 (io) "Port-A data. The 36-bit bidirectional data port for side A.", 30 A12 (io) "Port-A data. The 36-bit bidirectional data port for side A.", 32 A11 (io) "Port-A data. The 36-bit bidirectional data port for side A.", 33 A10 (io) "Port-A data. The 36-bit bidirectional data port for side A.", 34 A9 (io) "Port-A data. The 36-bit bidirectional data port for side A.", 35 A8 (io) "Port-A data. The 36-bit bidirectional data port for side A.", 36 A7 (io) "Port-A data. The 36-bit bidirectional data port for side A.", 37 A6 (io) "Port-A data. The 36-bit bidirectional data port for side A.", 39 A5 (io) "Port-A data. The 36-bit bidirectional data port for side A.", 40 A4 (io) "Port-A data. The 36-bit bidirectional data port for side A.", 41 A3 (io) "Port-A data. The 36-bit bidirectional data port for side A.", 43 A2 (io) "Port-A data. The 36-bit bidirectional data port for side A.", 44 A1 (io) "Port-A data. The 36-bit bidirectional data port for side A.", 45 A0 (io) "Port-A data. The 36-bit bidirectional data port for side A.", 47 B0 (io) "Port-B data. The 36-bit bidirectional data port for side B.", 48 B1 (io) "Port-B data. The 36-bit bidirectional data port for side B.", 49 B2 (io) "Port-B data. The 36-bit bidirectional data port for side B.", 50 B3 (io) "Port-B data. The 36-bit bidirectional data port for side B.", 51 B4 (io) "Port-B data. The 36-bit bidirectional data port for side B.", 52 B5 (io) "Port-B data. The 36-bit bidirectional data port for side B.", 54 B6 (io) "Port-B data. The 36-bit bidirectional data port for side B.", 56 B7 (io) "Port-B data. The 36-bit bidirectional data port for side B.", 57 B8 (io) "Port-B data. The 36-bit bidirectional data port for side B.", 58 B9 (io) "Port-B data. The 36-bit bidirectional data port for side B.", 59 B10 (io) "Port-B data. The 36-bit bidirectional data port for side B.", 60 B11 (io) "Port-B data. The 36-bit bidirectional data port for side B.", 62 B12 (io) "Port-B data. The 36-bit bidirectional data port for side B.", 63 B13 (io) "Port-B data. The 36-bit bidirectional data port for side B.", 64 B14 (io) "Port-B data. The 36-bit bidirectional data port for side B.", 65 B15 (io) "Port-B data. The 36-bit bidirectional data port for side B.", 67 B16 (io) "Port-B data. The 36-bit bidirectional data port for side B.", 68 B17 (io) "Port-B data. The 36-bit bidirectional data port for side B.", 70 B18 (io) "Port-B data. The 36-bit bidirectional data port for side B.", 71 B19 (io) "Port-B data. The 36-bit bidirectional data port for side B.", 72 B20 (io) "Port-B data. The 36-bit bidirectional data port for side B.", 73 B21 (io) "Port-B data. The 36-bit bidirectional data port for side B.", 74 B22 (io) "Port-B data. The 36-bit bidirectional data port for side B.", 75 B23 (io) "Port-B data. The 36-bit bidirectional data port for side B.", 77 B24 (io) "Port-B data. The 36-bit bidirectional data port for side B.", 78 B25 (io) "Port-B data. The 36-bit bidirectional data port for side B.", 80 B26 (io) "Port-B data. The 36-bit bidirectional data port for side B.", 81 B27 (io) "Port-B data. The 36-bit bidirectional data port for side B.", 82 B28 (io) "Port-B data. The 36-bit bidirectional data port for side B.", 83 B29 (io) "Port-B data. The 36-bit bidirectional data port for side B.", 84 B30 (io) "Port-B data. The 36-bit bidirectional data port for side B.", 85 B31 (io) "Port-B data. The 36-bit bidirectional data port for side B.", 87 B32 (io) "Port-B data. The 36-bit bidirectional data port for side B.", 88 B33 (io) "Port-B data. The 36-bit bidirectional data port for side B.", 89 B34 (io) "Port-B data. The 36-bit bidirectional data port for side B.", 90 B35 (io) "Port-B data. The 36-bit bidirectional data port for side B.", 92 CLKB (in) "Port-B clock. CLKB is a continuous clock that synchronizes all data transfers through port B and can be asynchronous or coincident to CLKA. OR and A\E\ are synchronous to the low-to-high transition of CLKB.", 93 ENB (in) "Port-B master enable. ENB must be high to enable a low-to-high transition of CLKB to read or write data on port B.", 94 ~{W}/RB (in) "Port-B write/read select. A low on W\/RB selects a write operation and a high selects a read operation on port B for a low-to-high transition of CLKB. The B0-B35 outputs are in the high-impedance state when W\/RB is low.", 95 ~{CSB} (in) "Port-B chip select. C\S\B\ must be low to enable a low-to-high transition of CLKB to read or write data on port B. The B0-B35 outputs are in the high-impedance state when C\S\B\ is high.", 99 MBB (in) "Port-B mailbox select. A high level on MBB chooses a mailbox register for a port-B read or write operation. When the B0-B35 outputs are active, a high level on MBB selects data from the mail1 register for output and a low (See Datasheet)", 108 MBA (in) "Port-A mailbox select. A high level on MBA chooses a mailbox register for a port-A read or write operation.", 116 ~{CSA} (in) "Port-A chip select. C\S\A\ must be low to enable a low-to-high transition of CLKA to read or write data on port A. The A0-A35 outputs are in the high-impedance state when C\S\A\ is high.", 117 W/~{R}A (in) "Port-A write/read select. A high on W/R\A selects a write operation and a low selects a read operation on port A for a low-to-high transition of CLKA. The A0-A35 outputs are in the high-impedance state when W/R\A is high.", 118 ENA (in) "Port-A master enable. ENA must be high to enable a low-to-high transition of CLKA to read or write data on port A.", 119 CLKA (in) "Port-A clock. CLKA is a continuous clock that synchronizes all data transfers through port A and can be asynchronous or coincident to CLKB. IR and A\F\ are synchronous to the low-to-high transition of CLKA."
part B pins: 97 ~{MBF1} (out) "Mail1 register flag. M\B\F\1\ is set low by the low-to-high transition of CLKA that writes data to the mail1 register. M\B\F\1\ is set high by a low-to-high transition of CLKB when a port-B read is selected and MBB is high. (See Datasheet)", 102 RFM (in) "Read from mark. When the FIFO is in retransmit mode, a high on RFM enables a low-to-high transition of CLKB to reset the read pointer to the beginning retransmit location and output the first selected retransmit data.", 103 RTM (in) "Retransmit mode. When RTM is high and valid data is present in the FIFO output register (OR is high), a low-to-high transition of CLKB selects the data for the beginning of a retransmit and puts the FIFO in retransmit mode. (See Datasheet)", 104 FS1/~{SEN} (in) "Flag-offset select 1/serial enable, flag-offset select 0/serial data. FS1/S\E\N\ and FS0/SD are dual-purpose inputs used for flag-offset-register programming. During a device reset, FS1/S\E\N\ and FS0/SD select the (See Datasheet)", 105 FS0/SD (in) "Flag-offset select 1/serial enable, flag-offset select 0/serial data. FS1/S\E\N\ and FS0/SD are dual-purpose inputs used for flag-offset-register programming. During a device reset, FS1/S\E\N\ and FS0/SD select the (See Datasheet)", 107 ~{RST} (in) "Reset. To reset the device, four low-to-high transitions of CLKA and four low-to-high transitions of CLKB must occur while R\S\T\ is low. The low-to-high transition of R\S\T\ latches the status of FS0 and FS1 for A\F\ and (See Datasheet)", 109 ~{MBF2} (out) "Mail2 register flag. M\B\F\2\ is set low by the low-to-high transition of CLKB that writes data to the mail2 register. M\B\F\2\ is set high by a low-to-high transition of CLKA when a port-A read is selected and MBA is high. (See Datasheet)", 111 ~{AE} (out) "Almost-empty flag. Programmable flag synchronized to CLKB. A\E\ is low when the number of words in the FIFO is less than or equal to the value in the almost-empty offset register (X).", 112 ~{AF} (out) "Almost-full flag. Programmable flag synchronized to CLKA. A\F\ is low when the number of empty locations in the FIFO is less than or equal to the value in the almost-full offset register (Y).", 114 OR (out) "Output-ready flag. OR is synchronized to the low-to-high transition of CLKB. When OR is low, the FIFO is empty and reads are disabled. Ready data is present in the output register of the FIFO when OR is high. OR is forced (See Datasheet)", 115 IR (out) "Input-ready flag. IR is synchronized to the low-to-high transition of CLKA. When IR is low, the FIFO is full and writes to its array are disabled. When the FIFO is in retransmit mode, IR indicates when the memory has been (See Datasheet)"
part C pins: 5 VCC (power), 8 GND (power), 16 GND (power), 18 VCC (power), 23 GND (power), 29 VCC (power), 31 GND (power), 38 GND (power), 42 VCC (power), 46 GND (power), 53 GND (power), 55 VCC (power), 61 GND (power), 66 VCC (power), 69 GND (power), 76 GND (power), 79 VCC (power), 86 GND (power), 91 VCC (power), 96 GND (power), 98 GND (power), 100 NC, 101 VCC (power), 106 GND (power), 110 VCC (power), 113 VCC (power), 120 GND (power)